# Altium schematic symbol library mje13007g.SchLib: 1 symbol
Pins are listed as number, name and electrical type; pins without a type are passive.

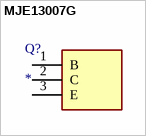
[diagram p0: symbol MJE13007G]

## MJE13007G
designator Q?
Transistor; Manufacturer_Name: onsemi; Manufacturer_Part_Number: MJE13007G; Datasheet Link: https://www.onsemi.com/pub/Collateral/MJE13007-D.PDF; Height: 4.83mm; Mouser Part Number: 863-MJE13007G; Mouser Price/Stock: https://www.mouser.co.uk/ProductDetail/onsemi/MJE13007G?qs=HVbQlW5zcXUR%252BbxH%252BcvjKA%3D%3D; Arrow Part Number: MJE13007G; Arrow Price/Stock: https://www.arrow.com/en/products/mje13007g/on-semiconductor?region=europe
footprint TO254P483X1010X2035-3P
pins: 1 B, 2 C, 3 E